# EAGLE library part NODEMCU_CP20 (library nodemcu_cp20)
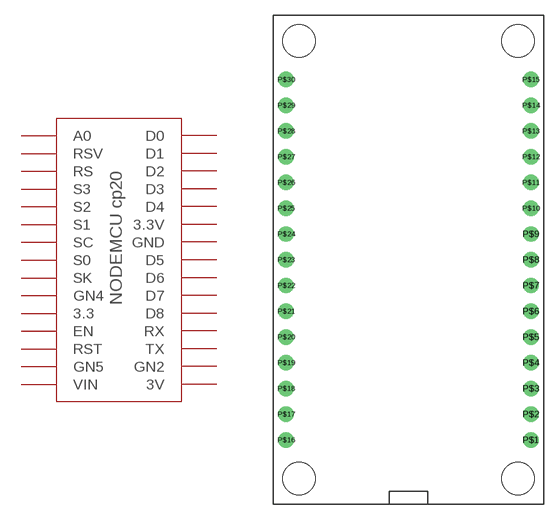
[diagram p0: symbol with the pads of NODEMCU_CP20; footprint NODEMCU_CP20]

Designator prefix -

## NODEMCU_CP20  [NODEMCU_CP20]
P$1  3V
P$2  GN2
P$3  TX
P$4  RX
P$5  D8
P$6  D7
P$7  D6
P$8  D5
P$9  GND
P$10  3.3V
P$11  D4
P$12  D3
P$13  D2
P$14  D1
P$15  D0
P$16  VIN
P$17  GN5
P$18  RST
P$19  EN
P$20  3.3
P$21  GN4
P$22  SK
P$23  S0
P$24  SC
P$25  S1
P$26  S2
P$27  S3
P$28  RS
P$29  RSV
P$30  A0

## Footprint NODEMCU_CP20 (pad centres in mm)
drill 1.016: P$1 25.4,6.35; P$2 25.4,8.89; P$3 25.4,11.43; P$4 25.4,13.97; P$5 25.4,16.51; P$6 25.4,19.05; P$7 25.4,21.59; P$8 25.4,24.13; P$9 25.4,26.67; P$10 25.4,29.21; P$11 25.4,31.75; P$12 25.4,34.29; P$13 25.4,36.83; P$14 25.4,39.37; P$15 25.4,41.91; P$16 1.27,6.35; P$17 1.27,8.89; P$18 1.27,11.43; P$19 1.27,13.97; P$20 1.27,16.51; P$21 1.27,19.05; P$22 1.27,21.59; P$23 1.27,24.13; P$24 1.27,26.67; P$25 1.27,29.21; P$26 1.27,31.75; P$27 1.27,34.29; P$28 1.27,36.83; P$29 1.27,39.37; P$30 1.27,41.91
hole 3.175 at 24.13,2.54
hole 3.175 at 2.54,2.54
hole 3.175 at 2.54,45.72
hole 3.175 at 24.13,45.72